# EAGLE library part ANALOG_DEVICES_AD8561ANZ (library IDP_library)
ADI-AD8561-X-8
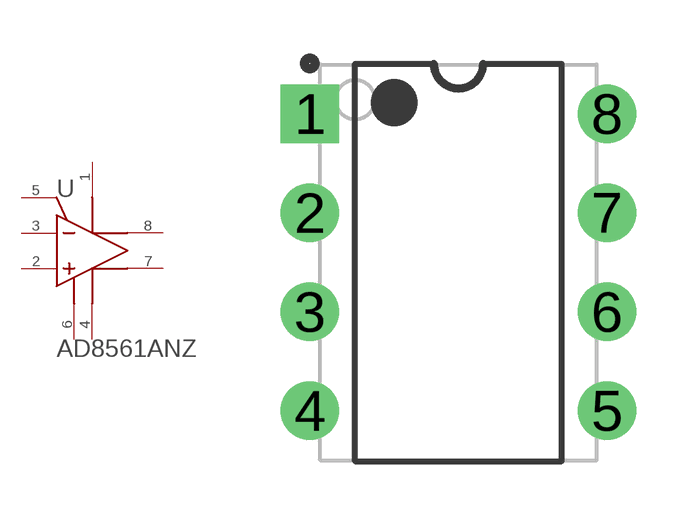
[diagram p31: symbol with the pads of ANALOG_DEVICES_AD8561ANZ_0; footprint ANALOG_DEVICES_AD8561ANZ_0]

Designator prefix U

## ANALOG_DEVICES_AD8561ANZANALOG_DEVICES_AD8561ANZ_0_0 (CIIVA_IDS: 959974; CODE__JEDEC: MS-001; COMPONENT_LINK_1_DESCRIPTION: Manufacturer URL; COMPONENT_LINK_1_URL: http://www.analog.com/en/index.html; COMPONENT_LINK_3_DESCRIPTION: Package Specification; COMPONENT_LINK_3_URL: http:/www.analog.com/static/imported-files/packages/PKG_PDF/PDIP(N)/N_8.pdf; COMPONENT_LINK_4_DESCRIPTION: URL Link1; COMPONENT_LINK_4_URL: Product URL:http://www.analog.com/en/special-linear-functions/comparators/ad8561/products/product.html; DATASHEET: http://www.analog.com/static/imported-files/data_sheets/AD8561.pdf; DATASHEET_VERSION: Rev. 0; FOOTPRINT_VARIANT_NAME_0: Manufacturer Recommended; IMPORTED: yes; IMPORTED_FROM: vault; IMPORT_TS: 1521854863; INPUT_RANGE_V: -5 to 3; MF: Analog Devices; MOUNTING_TECHNOLOGY: Through Hole; MPN: AD8561ANZ; PACKAGE: N-8; PACKAGE_DESCRIPTION: 8-Pin Plastic Dual In-Line Package, Row spacing 7.62 mm, Pitch 2.54 mm; PACKAGE_VERSION: 070606-A, 07/2006; PACKING: Tube; PIN_0_0_7_OUTSIDE_EDGE: dot; PREFIX: U; RELEASE_DATE: 1391075892; TOTAL_POWER_MW: 65mW; VAULT_GUID: A0432931-FA1A-4AFE-B724-DE9D0B0F978B; VAULT_REVISION: 699E1599-4F5A-4EDB-BE19-B76764EE3611; VOLTAGE_SUPPLY_V: +/- 5)  [ANALOG_DEVICES_AD8561ANZ_0]
1  V+  pwr
2  +IN  in
3  -IN  in
4  V-  pwr
5  LATCH  in
6  GND  pwr
7  OUT  out
8  !OUT!  out

## Footprint ANALOG_DEVICES_AD8561ANZ_0 (pad centres in mm)
ADI-AD8561-X-8
drill 0.9 pad 1.5 square: 1 -3.81,3.81
drill 0.9 pad 1.5: 2 -3.81,1.27; 3 -3.81,-1.27; 4 -3.81,-3.81; 5 3.81,-3.81; 6 3.81,-1.27; 7 3.81,1.27; 8 3.81,3.81